# EAGLE library part USB-MINIB-VERT (library Connector)
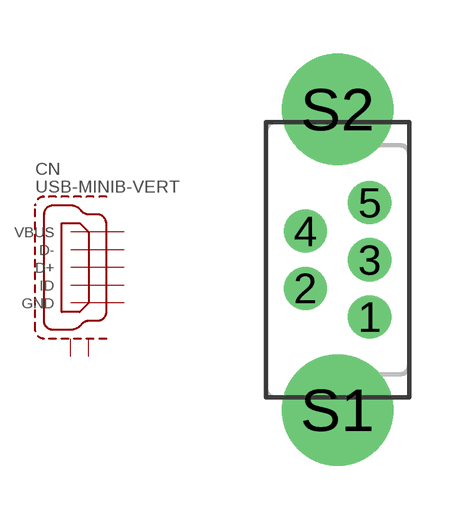
[diagram p24: symbol with the pads of USB-MINIB-VERT; footprint USB-MINIB-VERT]

Designator prefix CN

## USB-MINIB-VERT  [USB-MINIB-VERT]
1  VBUS  pas
2  D-  pas
3  D+  pas
4  ID  pas
5  GND  pas
S1  S1  pas
S2  S2  pas

## Footprint USB-MINIB-VERT (pad centres in mm)
drill 0.7: 1 0.9,-1.6; 2 -0.9,-0.8; 3 0.9,0; 4 -0.9,0.8; 5 0.9,1.6
drill 2.1: S1 0,-4.2; S2 0,4.2